# EAGLE library part BP5408 (library _mtvl.power)
Li-ion/Polymer battery powered LED Emergency-light controller
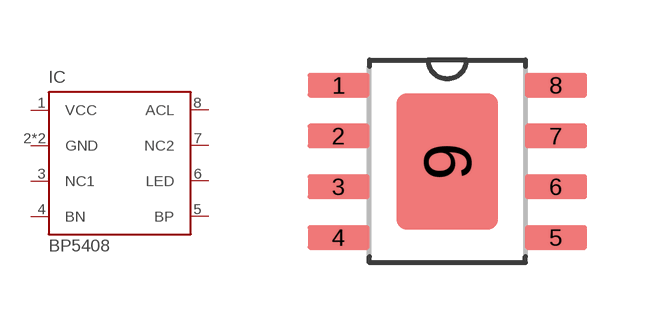
[diagram p11: symbol with the pads of SO8_EP; footprint SO8_EP]

Designator prefix IC

## BP5408  [SO8_EP]
1  VCC
2  GND
3  NC1
4  BN
5  BP
6  LED
7  NC2
8  ACL
9  GND

## Footprint SO8_EP (pad centres in mm)
smd 1.549 x 0.61: 1 -2.718,1.905; 2 -2.718,0.635; 3 -2.718,-0.635; 4 -2.718,-1.905; 5 2.718,-1.905; 6 2.718,-0.635; 7 2.718,0.635; 8 2.718,1.905
smd 2.54 x 3.404: 9 0,0